# Altium integrated library GRM21BR71A106KA73L.IntLib: 1 symbol
Pins are listed as number, name and electrical type; pins without a type are passive.

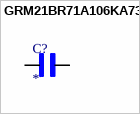
[diagram p0: symbol GRM21BR71A106KA73L]

## GRM21BR71A106KA73L
designator C?
SMD capacitor X7R(EIA) with capacitance 10uF Tol.10%. Rated voltage 10Vdc 125C; MF: Murata Electronics; MP: GRM21BR71A106KA73L; SnapEDA_Link: https://www.snapeda.com/parts/GRM21BR71A106KA73L/Murata+Electronics+North+America/view-part/?ref=snap; Package: 2012 Murata; Value: *; Check_prices: https://www.snapeda.com/parts/GRM21BR71A106KA73L/Murata+Electronics+North+America/view-part/?ref=eda
footprint CAPC2012X140N
pins: 1, 2